# Altium footprint library SnapEDApcb.PcbLib: 1 footprints
Each footprint in its own frame and in the unit in brackets; x right, y up, seen from the top. Pads: shape width x height; smd on the part's side, far side on the other; paste and mask are expansions set on the pad; w line width, h text height; cw(c..) or ccw(c..) is an arc to the next point about the centre after c.
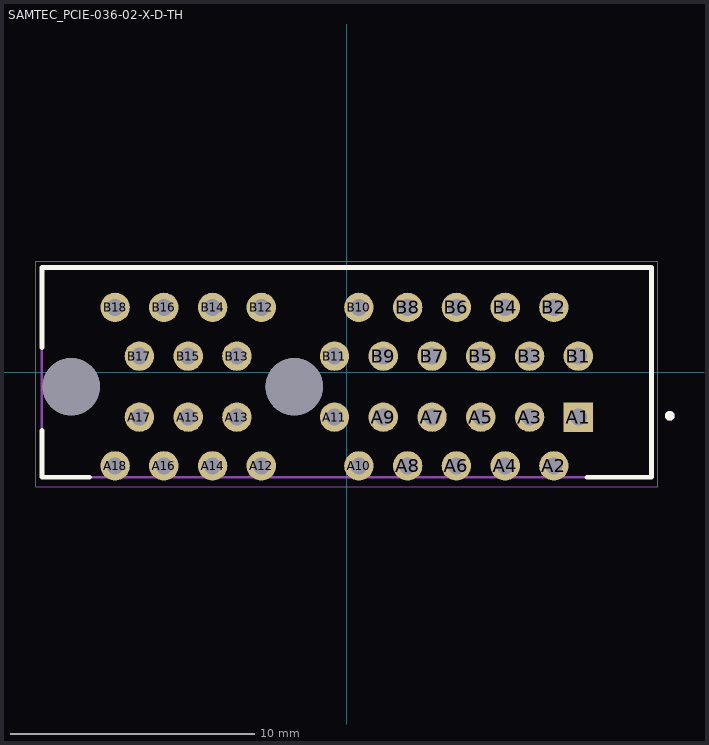
[diagram p0: the footprint, top view; thin cyan lines are the x and y axes]

## SAMTEC_PCIE-036-02-X-D-TH [mm]
pads (38):
  rect 1.208x1.208 hole 0.7: A1(9.5,-1.835)
  round 1.208 hole 0.7: A2(8.5,-3.835) A3(7.5,-1.835) A4(6.5,-3.835) A5(5.5,-1.835) A6(4.5,-3.835) A7(3.5,-1.835) A8(2.5,-3.835) A9(1.5,-1.835) A10(0.5,-3.835) A11(-0.5,-1.835) A12(-3.5,-3.835) A13(-4.5,-1.835) A14(-5.5,-3.835) A15(-6.5,-1.835) A16(-7.5,-3.835) A17(-8.5,-1.835) A18(-9.5,-3.835) B1(9.5,0.665) B2(8.5,2.665) B3(7.5,0.665) B4(6.5,2.665) B5(5.5,0.665) B6(4.5,2.665) B7(3.5,0.665) B8(2.5,2.665) B9(1.5,0.665) B10(0.5,2.665) B11(-0.5,0.665) B12(-3.5,2.665) B13(-4.5,0.665) B14(-5.5,2.665) B15(-6.5,0.665) B16(-7.5,2.665) B17(-8.5,0.665) B18(-9.5,2.665)
  round 2.35 hole 2.35 unplated: ""(-11.3,-0.585) ""(-2.15,-0.585)
Top Overlay:
  circle w0.2: c13.25,-1.785 r0.1
  lines w0.2: -12.5,-2.385 -12.5,-4.3 -10.55,-4.3 ; -12.5,1.015 -12.5,4.3 12.5,4.3 12.5,-4.3 9.85,-4.3
Mechanical 13:
  circle w0.2: c13.25,-1.785 r0.1
  lines w0.1: -12.5,-4.3 12.5,-4.3 12.5,4.3 -12.5,4.3 -12.5,-4.3
Mechanical 15:
  lines w0.05: -12.75,-4.685 12.75,-4.685 12.75,4.55 -12.75,4.55 -12.75,-4.685